# EAGLE library part LM358N_NOPB (library LM358N_NOPB)
Texas Instruments LM358N/NOPB, Dual Op Amp, 1MHz, 3 32 V, 8-Pin MDIP Source: Datasheet <http://www.ti.com/lit/ds/symlink/lm158-n.pdf>
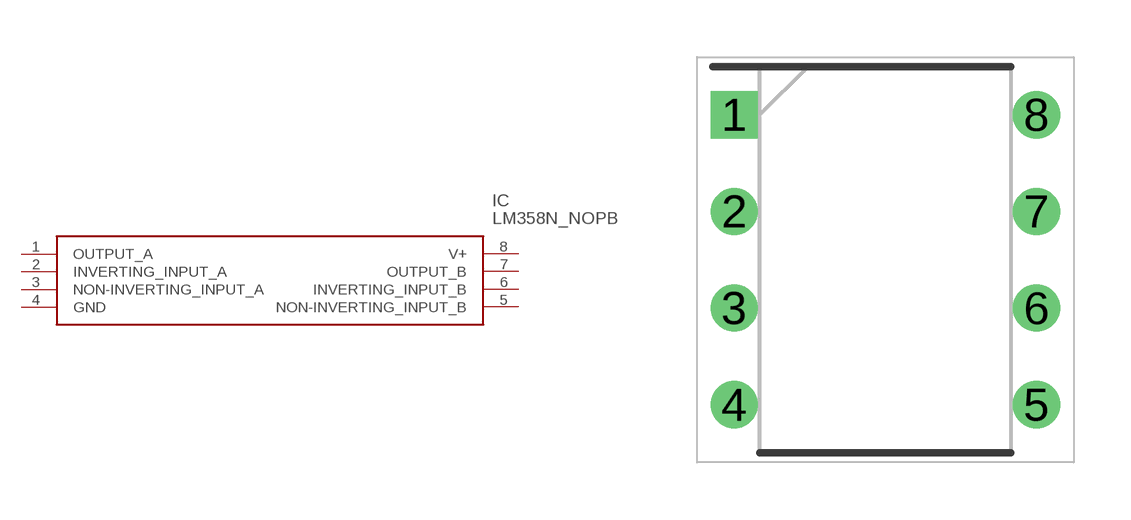
[diagram p0: symbol with the pads of DIP794W53P254L959H508Q8N; footprint DIP794W53P254L959H508Q8N]

Designator prefix IC

## LM358N_NOPB (Arrow_Part_Number: LM358N/NOPB; Arrow_Price-Stock: https://www.arrow.com/en/products/lm358nnopb/texas-instruments; Description: Texas Instruments LM358N/NOPB, Dual Op Amp, 1MHz, 3 32 V, 8-Pin MDIP; Height: 5.08mm; Manufacturer_Name: Texas Instruments; Manufacturer_Part_Number: LM358N/NOPB; Mouser_Part_Number: 926-LM358N/NOPB; Mouser_Price-Stock: https://www.mouser.co.uk/ProductDetail/Texas-Instruments/LM358N-NOPB/?qs=QbsRYf82W3GXbWt%2FvwDTcQ%3D%3D)  [DIP794W53P254L959H508Q8N]
1  OUTPUT_A
2  INVERTING_INPUT_A
3  NON-INVERTING_INPUT_A
4  GND
5  NON-INVERTING_INPUT_B
6  INVERTING_INPUT_B
7  OUTPUT_B
8  V+

## Footprint DIP794W53P254L959H508Q8N (pad centres in mm)
LM358N/NOPB-1
drill 0.73 pad 1.13 square: 1 -3.97,3.81
drill 0.73 pad 1.13: 2 -3.97,1.27; 3 -3.97,-1.27; 4 -3.97,-3.81; 5 3.97,-3.81; 6 3.97,-1.27; 7 3.97,1.27; 8 3.97,3.81